# Altium schematic symbol library LP5907-3.3 V LDO.SchLib: 1 symbol
Pins are listed as number, name and electrical type; pins without a type are passive.

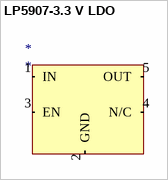
[diagram p0: symbol LP5907-3.3 V LDO]

## LP5907-3.3 V LDO
designator *
Voltage Regulator
pins: 1 IN (in), 2 GND (in), 3 EN (in), 4 N/C (in), 5 OUT (in)